# Altium footprint library JST.PcbLib: 1 footprints
Each footprint in its own frame and in the unit in brackets; x right, y up, seen from the top. Pads: shape width x height; smd on the part's side, far side on the other; paste and mask are expansions set on the pad; w line width, h text height; cw(c..) or ccw(c..) is an arc to the next point about the centre after c.
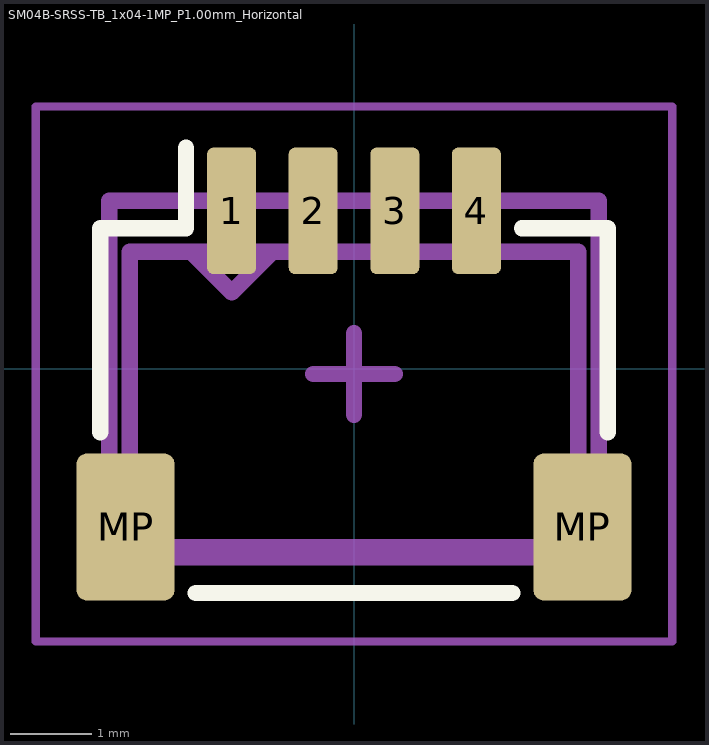
[diagram p0: the footprint, top view; thin cyan lines are the x and y axes]

## SM04B-SRSS-TB_1x04-1MP_P1.00mm_Horizontal [mm] "Connector Header, Side Entry, SR Series, 4 Position, 1.00mm, 50V, Surface Mount, Tin, Natural"
pads (6):
  rrect25% 0.6x1.55 smd: 1(-1.5,1.938) 2(-0.5,1.938) 3(0.5,1.938) 4(1.5,1.938)
  rrect20% 1.2x1.8 smd: MP(-2.8,-1.937) MP(2.8,-1.937)
Top Overlay:
  lines w0.2: -3.11,-0.777 -3.11,1.723 -2.06,1.723 -2.06,2.713 ; -1.94,-2.748 1.94,-2.748 ; 2.06,1.723 3.11,1.723 3.11,-0.777
Top Assembly:
  lines w0.2: -2,1.438 -1.5,0.938 -1,1.438 ; -2.75,-2.312 -2.75,1.438 2.75,1.438 2.75,-2.312 -2.75,-2.312
Top Component Center:
  lines w0.2: -0.5,-0.062 0.5,-0.062 ; 0,-0.562 0,0.437
Top Component Outline:
  lines w0.2: -3,-2.187 -3,2.063 3,2.063 3,-2.187 -3,-2.187
Top Courtyard:
  lines w0.1: -3.9,-3.343 -3.9,3.218 3.9,3.218 3.9,-3.343 -3.9,-3.343
Top Designator:
  text ".Designator" at -7.618,-0.57 h1.52
3D body "SM04B-SRSS-TB_LF__SN_.stp": height 2.96, standoff 0, extent -3,-2.395 3,2.555